# Altium integrated library Altium_WCAP-CSGP (rev22a).IntLib: 953 symbols (part 14 of 17)
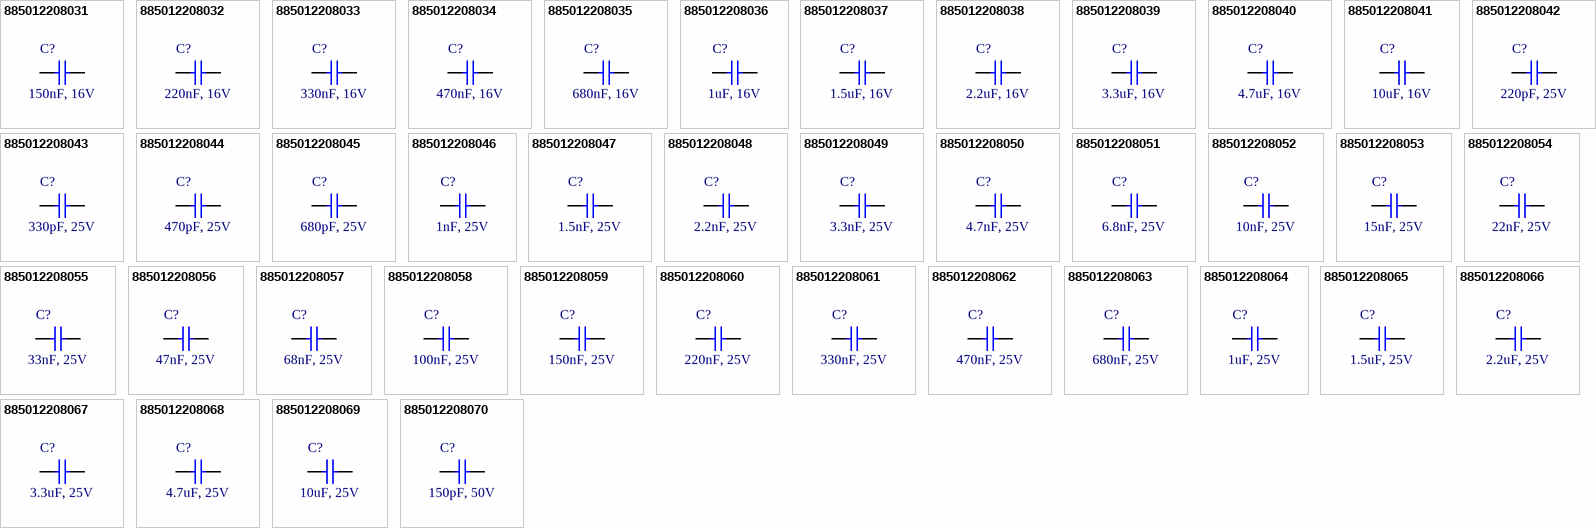
[diagram p40: symbols 885012208031 to 885012208070]

## 885012208051
designator C?, comment 6.8nF, 25V
WCAP-CSGP Multilayer Ceramic Chip Capacitor, General Purpose, size 1206, X7R, 6.8nF, 25V; Manufacturer: Wurth Elektronik; Manufacturer Part Number: 885012208051; Capacitance Tolerance: +/-10%; Dissipation Factor: 3.5%; Isolation Resistance: 10GOhm; Technical Reference: X7R1206682K025DFCT10000; Capacitance: 6.8nF; Ceramic Type: X7R; ComponentLink1Description: Manufacturer Link; ComponentLink1URL: http://www.we-online.de; ComponentLink2Description: Datasheet; ComponentLink2URL: https://www.we-online.com/catalog/datasheet/885012208051.pdf; Height: 0.8mm; Length: 3.2mm; Mounting Technology: SMT; Operating Temperature max.: 125C; Operating Temperature min.: -55C; Packaging: Tape and Reel; Rated Voltage: 25V; Size: 1206; Width: 1.6mm
footprint WCAP-CSGP_1206_L3.2W1.6H0.8
pins: 1, 2

## 885012208052
designator C?, comment 10nF, 25V
WCAP-CSGP Multilayer Ceramic Chip Capacitor, General Purpose, size 1206, X7R, 10nF, 25V; Manufacturer: Wurth Elektronik; Manufacturer Part Number: 885012208052; Capacitance Tolerance: +/-10%; Dissipation Factor: 3.5%; Isolation Resistance: 10GOhm; Technical Reference: X7R1206103K025DFCT10000; Capacitance: 10nF; Ceramic Type: X7R; ComponentLink1Description: Manufacturer Link; ComponentLink1URL: http://www.we-online.de; ComponentLink2Description: Datasheet; ComponentLink2URL: https://www.we-online.com/catalog/datasheet/885012208052.pdf; Height: 0.8mm; Length: 3.2mm; Mounting Technology: SMT; Operating Temperature max.: 125C; Operating Temperature min.: -55C; Packaging: Tape and Reel; Rated Voltage: 25V; Size: 1206; Width: 1.6mm
footprint WCAP-CSGP_1206_L3.2W1.6H0.8
pins: 1, 2

## 885012208053
designator C?, comment 15nF, 25V
WCAP-CSGP Multilayer Ceramic Chip Capacitor, General Purpose, size 1206, X7R, 15nF, 25V; Manufacturer: Wurth Elektronik; Manufacturer Part Number: 885012208053; Capacitance Tolerance: +/-10%; Dissipation Factor: 3.5%; Isolation Resistance: 10GOhm; Technical Reference: X7R1206153K025DFCT10000; Capacitance: 15nF; Ceramic Type: X7R; ComponentLink1Description: Manufacturer Link; ComponentLink1URL: http://www.we-online.de; ComponentLink2Description: Datasheet; ComponentLink2URL: https://www.we-online.com/catalog/datasheet/885012208053.pdf; Height: 0.8mm; Length: 3.2mm; Mounting Technology: SMT; Operating Temperature max.: 125C; Operating Temperature min.: -55C; Packaging: Tape and Reel; Rated Voltage: 25V; Size: 1206; Width: 1.6mm
footprint WCAP-CSGP_1206_L3.2W1.6H0.8
pins: 1, 2

## 885012208054
designator C?, comment 22nF, 25V
WCAP-CSGP Multilayer Ceramic Chip Capacitor, General Purpose, size 1206, X7R, 22nF, 25V; Manufacturer: Wurth Elektronik; Manufacturer Part Number: 885012208054; Capacitance Tolerance: +/-10%; Dissipation Factor: 3.5%; Isolation Resistance: 10GOhm; Technical Reference: X7R1206223K025DFCT10000; Capacitance: 22nF; Ceramic Type: X7R; ComponentLink1Description: Manufacturer Link; ComponentLink1URL: http://www.we-online.de; ComponentLink2Description: Datasheet; ComponentLink2URL: https://www.we-online.com/catalog/datasheet/885012208054.pdf; Height: 0.8mm; Length: 3.2mm; Mounting Technology: SMT; Operating Temperature max.: 125C; Operating Temperature min.: -55C; Packaging: Tape and Reel; Rated Voltage: 25V; Size: 1206; Width: 1.6mm
footprint WCAP-CSGP_1206_L3.2W1.6H0.8
pins: 1, 2

## 885012208055
designator C?, comment 33nF, 25V
WCAP-CSGP Multilayer Ceramic Chip Capacitor, General Purpose, size 1206, X7R, 33nF, 25V; Manufacturer: Wurth Elektronik; Manufacturer Part Number: 885012208055; Capacitance Tolerance: +/-10%; Dissipation Factor: 3.5%; Isolation Resistance: 10GOhm; Technical Reference: X7R1206333K025DFCT10000; Capacitance: 33nF; Ceramic Type: X7R; ComponentLink1Description: Manufacturer Link; ComponentLink1URL: http://www.we-online.de; ComponentLink2Description: Datasheet; ComponentLink2URL: https://www.we-online.com/catalog/datasheet/885012208055.pdf; Height: 0.8mm; Length: 3.2mm; Mounting Technology: SMT; Operating Temperature max.: 125C; Operating Temperature min.: -55C; Packaging: Tape and Reel; Rated Voltage: 25V; Size: 1206; Width: 1.6mm
footprint WCAP-CSGP_1206_L3.2W1.6H0.8
pins: 1, 2

## 885012208056
designator C?, comment 47nF, 25V
WCAP-CSGP Multilayer Ceramic Chip Capacitor, General Purpose, size 1206, X7R, 47nF, 25V; Manufacturer: Wurth Elektronik; Manufacturer Part Number: 885012208056; Capacitance Tolerance: +/-10%; Dissipation Factor: 3.5%; Isolation Resistance: 10GOhm; Technical Reference: X7R1206473K025DFCT10000; Capacitance: 47nF; Ceramic Type: X7R; ComponentLink1Description: Manufacturer Link; ComponentLink1URL: http://www.we-online.de; ComponentLink2Description: Datasheet; ComponentLink2URL: https://www.we-online.com/catalog/datasheet/885012208056.pdf; Height: 0.8mm; Length: 3.2mm; Mounting Technology: SMT; Operating Temperature max.: 125C; Operating Temperature min.: -55C; Packaging: Tape and Reel; Rated Voltage: 25V; Size: 1206; Width: 1.6mm
footprint WCAP-CSGP_1206_L3.2W1.6H0.8
pins: 1, 2

## 885012208057
designator C?, comment 68nF, 25V
WCAP-CSGP Multilayer Ceramic Chip Capacitor, General Purpose, size 1206, X7R, 68nF, 25V; Manufacturer: Wurth Elektronik; Manufacturer Part Number: 885012208057; Capacitance Tolerance: +/-10%; Dissipation Factor: 3.5%; Isolation Resistance: 7.4GOhm; Technical Reference: X7R1206683K025DFCT10000; Capacitance: 68nF; Ceramic Type: X7R; ComponentLink1Description: Manufacturer Link; ComponentLink1URL: http://www.we-online.de; ComponentLink2Description: Datasheet; ComponentLink2URL: https://www.we-online.com/catalog/datasheet/885012208057.pdf; Height: 0.8mm; Length: 3.2mm; Mounting Technology: SMT; Operating Temperature max.: 125C; Operating Temperature min.: -55C; Packaging: Tape and Reel; Rated Voltage: 25V; Size: 1206; Width: 1.6mm
footprint WCAP-CSGP_1206_L3.2W1.6H0.8
pins: 1, 2

## 885012208058
designator C?, comment 100nF, 25V
WCAP-CSGP Multilayer Ceramic Chip Capacitor, General Purpose, size 1206, X7R, 100nF, 25V; Manufacturer: Wurth Elektronik; Manufacturer Part Number: 885012208058; Capacitance Tolerance: +/-10%; Dissipation Factor: 3.5%; Isolation Resistance: 5GOhm; Technical Reference: X7R1206104K025DFCT10000; Capacitance: 100nF; Ceramic Type: X7R; ComponentLink1Description: Manufacturer Link; ComponentLink1URL: http://www.we-online.de; ComponentLink2Description: Datasheet; ComponentLink2URL: https://www.we-online.com/catalog/datasheet/885012208058.pdf; Height: 0.8mm; Length: 3.2mm; Mounting Technology: SMT; Operating Temperature max.: 125C; Operating Temperature min.: -55C; Packaging: Tape and Reel; Rated Voltage: 25V; Size: 1206; Width: 1.6mm
footprint WCAP-CSGP_1206_L3.2W1.6H0.8
pins: 1, 2

## 885012208059
designator C?, comment 150nF, 25V
WCAP-CSGP Multilayer Ceramic Chip Capacitor, General Purpose, size 1206, X7R, 150nF, 25V; Manufacturer: Wurth Elektronik; Manufacturer Part Number: 885012208059; Capacitance Tolerance: +/-10%; Dissipation Factor: 3.5%; Isolation Resistance: 3.3GOhm; Technical Reference: X7R1206154K025DFCT10000; Capacitance: 150nF; Ceramic Type: X7R; ComponentLink1Description: Manufacturer Link; ComponentLink1URL: http://www.we-online.de; ComponentLink2Description: Datasheet; ComponentLink2URL: https://www.we-online.com/catalog/datasheet/885012208059.pdf; Height: 0.95mm; Length: 3.2mm; Mounting Technology: SMT; Operating Temperature max.: 125C; Operating Temperature min.: -55C; Packaging: Tape and Reel; Rated Voltage: 25V; Size: 1206; Width: 1.6mm
footprint WCAP-CSGP_1206_L3.2W1.6H0.95
pins: 1, 2

## 885012208060
designator C?, comment 220nF, 25V
WCAP-CSGP Multilayer Ceramic Chip Capacitor, General Purpose, size 1206, X7R, 220nF, 25V; Manufacturer: Wurth Elektronik; Manufacturer Part Number: 885012208060; Capacitance Tolerance: +/-10%; Dissipation Factor: 3.5%; Isolation Resistance: 2.3GOhm; Technical Reference: X7R1206224K025DFCT10000; Capacitance: 220nF; Ceramic Type: X7R; ComponentLink1Description: Manufacturer Link; ComponentLink1URL: http://www.we-online.de; ComponentLink2Description: Datasheet; ComponentLink2URL: https://www.we-online.com/catalog/datasheet/885012208060.pdf; Height: 0.95mm; Length: 3.2mm; Mounting Technology: SMT; Operating Temperature max.: 125C; Operating Temperature min.: -55C; Packaging: Tape and Reel; Rated Voltage: 25V; Size: 1206; Width: 1.6mm
footprint WCAP-CSGP_1206_L3.2W1.6H0.95
pins: 1, 2

## 885012208061
designator C?, comment 330nF, 25V
WCAP-CSGP Multilayer Ceramic Chip Capacitor, General Purpose, size 1206, X7R, 330nF, 25V; Manufacturer: Wurth Elektronik; Manufacturer Part Number: 885012208061; Capacitance Tolerance: +/-10%; Dissipation Factor: 3.5%; Isolation Resistance: 1.5GOhm; Technical Reference: X7R1206334K025DFCT10000; Capacitance: 330nF; Ceramic Type: X7R; ComponentLink1Description: Manufacturer Link; ComponentLink1URL: http://www.we-online.de; ComponentLink2Description: Datasheet; ComponentLink2URL: https://www.we-online.com/catalog/datasheet/885012208061.pdf; Height: 0.95mm; Length: 3.2mm; Mounting Technology: SMT; Operating Temperature max.: 125C; Operating Temperature min.: -55C; Packaging: Tape and Reel; Rated Voltage: 25V; Size: 1206; Width: 1.6mm
footprint WCAP-CSGP_1206_L3.2W1.6H0.95
pins: 1, 2

## 885012208062
designator C?, comment 470nF, 25V
WCAP-CSGP Multilayer Ceramic Chip Capacitor, General Purpose, size 1206, X7R, 470nF, 25V; Manufacturer: Wurth Elektronik; Manufacturer Part Number: 885012208062; Capacitance Tolerance: +/-10%; Dissipation Factor: 3.5%; Isolation Resistance: 1.1GOhm; Technical Reference: X7R1206474K025DFCT10000; Capacitance: 470nF; Ceramic Type: X7R; ComponentLink1Description: Manufacturer Link; ComponentLink1URL: http://www.we-online.de; ComponentLink2Description: Datasheet; ComponentLink2URL: https://www.we-online.com/catalog/datasheet/885012208062.pdf; Height: 1.15mm; Length: 3.2mm; Mounting Technology: SMT; Operating Temperature max.: 125C; Operating Temperature min.: -55C; Packaging: Tape and Reel; Rated Voltage: 25V; Size: 1206; Width: 1.6mm
footprint WCAP-CSGP_1206_L3.2W1.6H1.15
pins: 1, 2

## 885012208063
designator C?, comment 680nF, 25V
WCAP-CSGP Multilayer Ceramic Chip Capacitor, General Purpose, size 1206, X7R, 680nF, 25V; Manufacturer: Wurth Elektronik; Manufacturer Part Number: 885012208063; Capacitance Tolerance: +/-10%; Dissipation Factor: 3.5%; Isolation Resistance: 0.7GOhm; Technical Reference: X7R1206684K025DFCT10000; Capacitance: 680nF; Ceramic Type: X7R; ComponentLink1Description: Manufacturer Link; ComponentLink1URL: http://www.we-online.de; ComponentLink2Description: Datasheet; ComponentLink2URL: https://www.we-online.com/catalog/datasheet/885012208063.pdf; Height: 1.15mm; Length: 3.2mm; Mounting Technology: SMT; Operating Temperature max.: 125C; Operating Temperature min.: -55C; Packaging: Tape and Reel; Rated Voltage: 25V; Size: 1206; Width: 1.6mm
footprint WCAP-CSGP_1206_L3.2W1.6H1.15
pins: 1, 2

## 885012208064
designator C?, comment 1uF, 25V
WCAP-CSGP Multilayer Ceramic Chip Capacitor, General Purpose, size 1206, X7R, 1uF, 25V; Manufacturer: Wurth Elektronik; Manufacturer Part Number: 885012208064; Capacitance Tolerance: +/-10%; Dissipation Factor: 3.5%; Isolation Resistance: 0.5GOhm; Technical Reference: X7R1206105K025DFCT10000; Capacitance: 1uF; Ceramic Type: X7R; ComponentLink1Description: Manufacturer Link; ComponentLink1URL: http://www.we-online.de; ComponentLink2Description: Datasheet; ComponentLink2URL: https://www.we-online.com/catalog/datasheet/885012208064.pdf; Height: 1.15mm; Length: 3.2mm; Mounting Technology: SMT; Operating Temperature max.: 125C; Operating Temperature min.: -55C; Packaging: Tape and Reel; Rated Voltage: 25V; Size: 1206; Width: 1.6mm
footprint WCAP-CSGP_1206_L3.2W1.6H1.15
pins: 1, 2

## 885012208065
designator C?, comment 1.5uF, 25V
WCAP-CSGP Multilayer Ceramic Chip Capacitor, General Purpose, size 1206, X7R, 1.5uF, 25V; Manufacturer: Wurth Elektronik; Manufacturer Part Number: 885012208065; Capacitance Tolerance: +/-10%; Dissipation Factor: 3.5%; Isolation Resistance: 0.3GOhm; Technical Reference: X7R1206155K025DFCT10000; Capacitance: 1.5uF; Ceramic Type: X7R; ComponentLink1Description: Manufacturer Link; ComponentLink1URL: http://www.we-online.de; ComponentLink2Description: Datasheet; ComponentLink2URL: https://www.we-online.com/catalog/datasheet/885012208065.pdf; Height: 1.6mm; Length: 3.2mm; Mounting Technology: SMT; Operating Temperature max.: 125C; Operating Temperature min.: -55C; Packaging: Tape and Reel; Rated Voltage: 25V; Size: 1206; Width: 1.6mm
footprint WCAP-CSGP_1206_L3.2W1.6H1.6
pins: 1, 2

## 885012208066
designator C?, comment 2.2uF, 25V
WCAP-CSGP Multilayer Ceramic Chip Capacitor, General Purpose, size 1206, X7R, 2.2uF, 25V; Manufacturer: Wurth Elektronik; Manufacturer Part Number: 885012208066; Capacitance Tolerance: +/-10%; Dissipation Factor: 3.5%; Isolation Resistance: 0.2GOhm; Technical Reference: X7R1206225K025DFCT10000; Capacitance: 2.2uF; Ceramic Type: X7R; ComponentLink1Description: Manufacturer Link; ComponentLink1URL: http://www.we-online.de; ComponentLink2Description: Datasheet; ComponentLink2URL: https://www.we-online.com/catalog/datasheet/885012208066.pdf; Height: 1.6mm; Length: 3.2mm; Mounting Technology: SMT; Operating Temperature max.: 125C; Operating Temperature min.: -55C; Packaging: Tape and Reel; Rated Voltage: 25V; Size: 1206; Width: 1.6mm
footprint WCAP-CSGP_1206_L3.2W1.6H1.6
pins: 1, 2

## 885012208067
designator C?, comment 3.3uF, 25V
WCAP-CSGP Multilayer Ceramic Chip Capacitor, General Purpose, size 1206, X7R, 3.3uF, 25V; Manufacturer: Wurth Elektronik; Manufacturer Part Number: 885012208067; Capacitance Tolerance: +/-10%; Dissipation Factor: 3.5%; Isolation Resistance: 0.2GOhm; Technical Reference: X7R1206335K025DFCT10000; Capacitance: 3.3uF; Ceramic Type: X7R; ComponentLink1Description: Manufacturer Link; ComponentLink1URL: http://www.we-online.de; ComponentLink2Description: Datasheet; ComponentLink2URL: https://www.we-online.com/catalog/datasheet/885012208067.pdf; Height: 1.6mm; Length: 3.2mm; Mounting Technology: SMT; Operating Temperature max.: 125C; Operating Temperature min.: -55C; Packaging: Tape and Reel; Rated Voltage: 25V; Size: 1206; Width: 1.6mm
footprint WCAP-CSGP_1206_L3.2W1.6H1.6
pins: 1, 2

## 885012208068
designator C?, comment 4.7uF, 25V
WCAP-CSGP Multilayer Ceramic Chip Capacitor, General Purpose, size 1206, X7R, 4.7uF, 25V; Manufacturer: Wurth Elektronik; Manufacturer Part Number: 885012208068; Capacitance Tolerance: +/-10%; Dissipation Factor: 7%; Isolation Resistance: 0.1GOhm; Technical Reference: X7R1206475K025DFCT10000; Capacitance: 4.7uF; Ceramic Type: X7R; ComponentLink1Description: Manufacturer Link; ComponentLink1URL: http://www.we-online.de; ComponentLink2Description: Datasheet; ComponentLink2URL: https://www.we-online.com/catalog/datasheet/885012208068.pdf; Height: 1.6mm; Length: 3.2mm; Mounting Technology: SMT; Operating Temperature max.: 125C; Operating Temperature min.: -55C; Packaging: Tape and Reel; Rated Voltage: 25V; Size: 1206; Width: 1.6mm
footprint WCAP-CSGP_1206_L3.2W1.6H1.6
pins: 1, 2

## 885012208069
designator C?, comment 10uF, 25V
WCAP-CSGP Multilayer Ceramic Chip Capacitor, General Purpose, size 1206, X7R, 10uF, 25V; Manufacturer: Wurth Elektronik; Manufacturer Part Number: 885012208069; Capacitance Tolerance: +/-10%; Dissipation Factor: 10%; Isolation Resistance: 0.01GOhm; Technical Reference: X7R1206106K025DFCT10000; Capacitance: 10uF; Ceramic Type: X7R; ComponentLink1Description: Manufacturer Link; ComponentLink1URL: http://www.we-online.de; ComponentLink2Description: Datasheet; ComponentLink2URL: https://www.we-online.com/catalog/datasheet/885012208069.pdf; Height: 1.6mm; Length: 3.2mm; Mounting Technology: SMT; Operating Temperature max.: 125C; Operating Temperature min.: -55C; Packaging: Tape and Reel; Rated Voltage: 25V; Size: 1206; Width: 1.6mm
footprint WCAP-CSGP_1206_L3.2W1.6H1.6
pins: 1, 2

## 885012208070
designator C?, comment 150pF, 50V
WCAP-CSGP Multilayer Ceramic Chip Capacitor, General Purpose, size 1206, X7R, 150pF, 50V; Manufacturer: Wurth Elektronik; Manufacturer Part Number: 885012208070; Capacitance Tolerance: +/-10%; Dissipation Factor: 2.5%; Isolation Resistance: 10GOhm; Technical Reference: X7R1206151K050DFCT10000; Capacitance: 150pF; Ceramic Type: X7R; ComponentLink1Description: Manufacturer Link; ComponentLink1URL: http://www.we-online.de; ComponentLink2Description: Datasheet; ComponentLink2URL: https://www.we-online.com/catalog/datasheet/885012208070.pdf; Height: 0.8mm; Length: 3.2mm; Mounting Technology: SMT; Operating Temperature max.: 125C; Operating Temperature min.: -55C; Packaging: Tape and Reel; Rated Voltage: 50V; Size: 1206; Width: 1.6mm
footprint WCAP-CSGP_1206_L3.2W1.6H0.8
pins: 1, 2

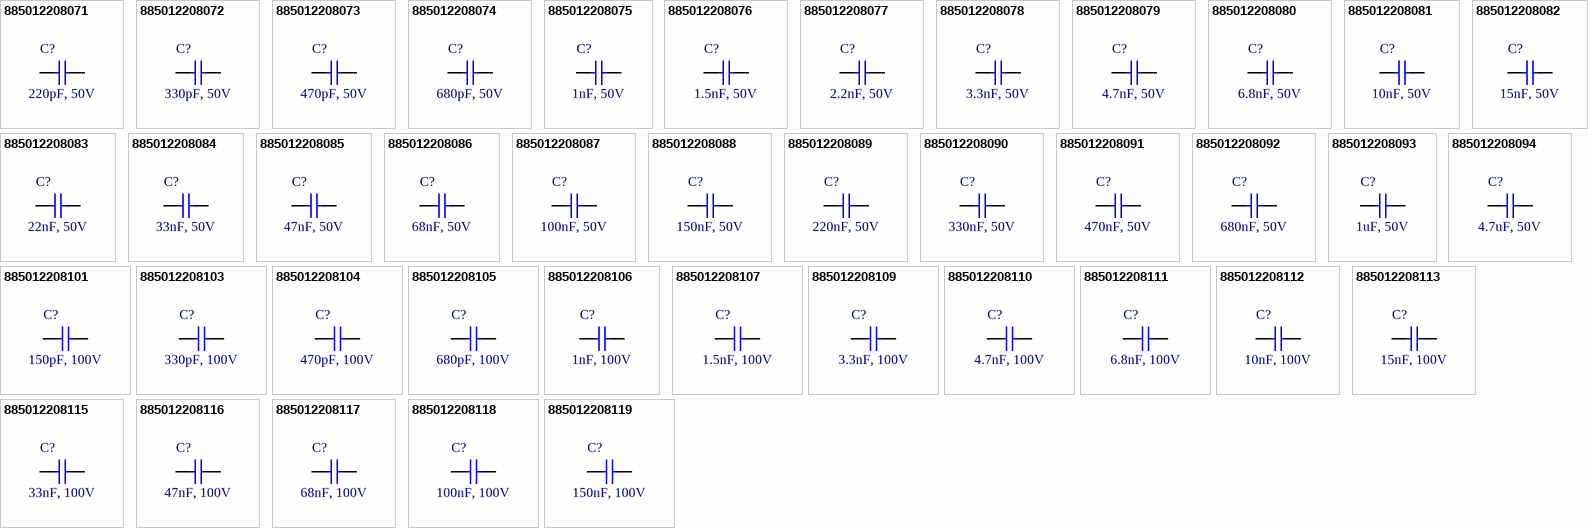
[diagram p21: symbols 885012208071 to 885012208119]

## 885012208071
designator C?, comment 220pF, 50V
WCAP-CSGP Multilayer Ceramic Chip Capacitor, General Purpose, size 1206, X7R, 220pF, 50V; Manufacturer: Wurth Elektronik; Manufacturer Part Number: 885012208071; Capacitance Tolerance: +/-10%; Dissipation Factor: 2.5%; Isolation Resistance: 10GOhm; Technical Reference: X7R1206221K050DFCT10000; Capacitance: 220pF; Ceramic Type: X7R; ComponentLink1Description: Manufacturer Link; ComponentLink1URL: http://www.we-online.de; ComponentLink2Description: Datasheet; ComponentLink2URL: https://www.we-online.com/catalog/datasheet/885012208071.pdf; Height: 0.8mm; Length: 3.2mm; Mounting Technology: SMT; Operating Temperature max.: 125C; Operating Temperature min.: -55C; Packaging: Tape and Reel; Rated Voltage: 50V; Size: 1206; Width: 1.6mm
footprint WCAP-CSGP_1206_L3.2W1.6H0.8
pins: 1, 2

## 885012208072
designator C?, comment 330pF, 50V
WCAP-CSGP Multilayer Ceramic Chip Capacitor, General Purpose, size 1206, X7R, 330pF, 50V; Manufacturer: Wurth Elektronik; Manufacturer Part Number: 885012208072; Capacitance Tolerance: +/-10%; Dissipation Factor: 2.5%; Isolation Resistance: 10GOhm; Technical Reference: X7R1206331K050DFCT10000; Capacitance: 330pF; Ceramic Type: X7R; ComponentLink1Description: Manufacturer Link; ComponentLink1URL: http://www.we-online.de; ComponentLink2Description: Datasheet; ComponentLink2URL: https://www.we-online.com/catalog/datasheet/885012208072.pdf; Height: 0.8mm; Length: 3.2mm; Mounting Technology: SMT; Operating Temperature max.: 125C; Operating Temperature min.: -55C; Packaging: Tape and Reel; Rated Voltage: 50V; Size: 1206; Width: 1.6mm
footprint WCAP-CSGP_1206_L3.2W1.6H0.8
pins: 1, 2

## 885012208073
designator C?, comment 470pF, 50V
WCAP-CSGP Multilayer Ceramic Chip Capacitor, General Purpose, size 1206, X7R, 470pF, 50V; Manufacturer: Wurth Elektronik; Manufacturer Part Number: 885012208073; Capacitance Tolerance: +/-10%; Dissipation Factor: 2.5%; Isolation Resistance: 10GOhm; Technical Reference: X7R1206471K050DFCT10000; Capacitance: 470pF; Ceramic Type: X7R; ComponentLink1Description: Manufacturer Link; ComponentLink1URL: http://www.we-online.de; ComponentLink2Description: Datasheet; ComponentLink2URL: https://www.we-online.com/catalog/datasheet/885012208073.pdf; Height: 0.8mm; Length: 3.2mm; Mounting Technology: SMT; Operating Temperature max.: 125C; Operating Temperature min.: -55C; Packaging: Tape and Reel; Rated Voltage: 50V; Size: 1206; Width: 1.6mm
footprint WCAP-CSGP_1206_L3.2W1.6H0.8
pins: 1, 2

## 885012208074
designator C?, comment 680pF, 50V
WCAP-CSGP Multilayer Ceramic Chip Capacitor, General Purpose, size 1206, X7R, 680pF, 50V; Manufacturer: Wurth Elektronik; Manufacturer Part Number: 885012208074; Capacitance Tolerance: +/-10%; Dissipation Factor: 2.5%; Isolation Resistance: 10GOhm; Technical Reference: X7R1206681K050DFCT10000; Capacitance: 680pF; Ceramic Type: X7R; ComponentLink1Description: Manufacturer Link; ComponentLink1URL: http://www.we-online.de; ComponentLink2Description: Datasheet; ComponentLink2URL: https://www.we-online.com/catalog/datasheet/885012208074.pdf; Height: 0.8mm; Length: 3.2mm; Mounting Technology: SMT; Operating Temperature max.: 125C; Operating Temperature min.: -55C; Packaging: Tape and Reel; Rated Voltage: 50V; Size: 1206; Width: 1.6mm
footprint WCAP-CSGP_1206_L3.2W1.6H0.8
pins: 1, 2

## 885012208075
designator C?, comment 1nF, 50V
WCAP-CSGP Multilayer Ceramic Chip Capacitor, General Purpose, size 1206, X7R, 1nF, 50V; Manufacturer: Wurth Elektronik; Manufacturer Part Number: 885012208075; Capacitance Tolerance: +/-10%; Dissipation Factor: 2.5%; Isolation Resistance: 10GOhm; Technical Reference: X7R1206102K050DFCT10000; Capacitance: 1nF; Ceramic Type: X7R; ComponentLink1Description: Manufacturer Link; ComponentLink1URL: http://www.we-online.de; ComponentLink2Description: Datasheet; ComponentLink2URL: https://www.we-online.com/catalog/datasheet/885012208075.pdf; Height: 0.8mm; Length: 3.2mm; Mounting Technology: SMT; Operating Temperature max.: 125C; Operating Temperature min.: -55C; Packaging: Tape and Reel; Rated Voltage: 50V; Size: 1206; Width: 1.6mm
footprint WCAP-CSGP_1206_L3.2W1.6H0.8
pins: 1, 2

## 885012208076
designator C?, comment 1.5nF, 50V
WCAP-CSGP Multilayer Ceramic Chip Capacitor, General Purpose, size 1206, X7R, 1.5nF, 50V; Manufacturer: Wurth Elektronik; Manufacturer Part Number: 885012208076; Capacitance Tolerance: +/-10%; Dissipation Factor: 2.5%; Isolation Resistance: 10GOhm; Technical Reference: X7R1206152K050DFCT10000; Capacitance: 1.5nF; Ceramic Type: X7R; ComponentLink1Description: Manufacturer Link; ComponentLink1URL: http://www.we-online.de; ComponentLink2Description: Datasheet; ComponentLink2URL: https://www.we-online.com/catalog/datasheet/885012208076.pdf; Height: 0.8mm; Length: 3.2mm; Mounting Technology: SMT; Operating Temperature max.: 125C; Operating Temperature min.: -55C; Packaging: Tape and Reel; Rated Voltage: 50V; Size: 1206; Width: 1.6mm
footprint WCAP-CSGP_1206_L3.2W1.6H0.8
pins: 1, 2

## 885012208077
designator C?, comment 2.2nF, 50V
WCAP-CSGP Multilayer Ceramic Chip Capacitor, General Purpose, size 1206, X7R, 2.2nF, 50V; Manufacturer: Wurth Elektronik; Manufacturer Part Number: 885012208077; Capacitance Tolerance: +/-10%; Dissipation Factor: 2.5%; Isolation Resistance: 10GOhm; Technical Reference: X7R1206222K050DFCT10000; Capacitance: 2.2nF; Ceramic Type: X7R; ComponentLink1Description: Manufacturer Link; ComponentLink1URL: http://www.we-online.de; ComponentLink2Description: Datasheet; ComponentLink2URL: https://www.we-online.com/catalog/datasheet/885012208077.pdf; Height: 0.8mm; Length: 3.2mm; Mounting Technology: SMT; Operating Temperature max.: 125C; Operating Temperature min.: -55C; Packaging: Tape and Reel; Rated Voltage: 50V; Size: 1206; Width: 1.6mm
footprint WCAP-CSGP_1206_L3.2W1.6H0.8
pins: 1, 2

## 885012208078
designator C?, comment 3.3nF, 50V
WCAP-CSGP Multilayer Ceramic Chip Capacitor, General Purpose, size 1206, X7R, 3.3nF, 50V; Manufacturer: Wurth Elektronik; Manufacturer Part Number: 885012208078; Capacitance Tolerance: +/-10%; Dissipation Factor: 2.5%; Isolation Resistance: 10GOhm; Technical Reference: X7R1206332K050DFCT10000; Capacitance: 3.3nF; Ceramic Type: X7R; ComponentLink1Description: Manufacturer Link; ComponentLink1URL: http://www.we-online.de; ComponentLink2Description: Datasheet; ComponentLink2URL: https://www.we-online.com/catalog/datasheet/885012208078.pdf; Height: 0.8mm; Length: 3.2mm; Mounting Technology: SMT; Operating Temperature max.: 125C; Operating Temperature min.: -55C; Packaging: Tape and Reel; Rated Voltage: 50V; Size: 1206; Width: 1.6mm
footprint WCAP-CSGP_1206_L3.2W1.6H0.8
pins: 1, 2

## 885012208079
designator C?, comment 4.7nF, 50V
WCAP-CSGP Multilayer Ceramic Chip Capacitor, General Purpose, size 1206, X7R, 4.7nF, 50V; Manufacturer: Wurth Elektronik; Manufacturer Part Number: 885012208079; Capacitance Tolerance: +/-10%; Dissipation Factor: 2.5%; Isolation Resistance: 10GOhm; Technical Reference: X7R1206472K050DFCT10000; Capacitance: 4.7nF; Ceramic Type: X7R; ComponentLink1Description: Manufacturer Link; ComponentLink1URL: http://www.we-online.de; ComponentLink2Description: Datasheet; ComponentLink2URL: https://www.we-online.com/catalog/datasheet/885012208079.pdf; Height: 0.8mm; Length: 3.2mm; Mounting Technology: SMT; Operating Temperature max.: 125C; Operating Temperature min.: -55C; Packaging: Tape and Reel; Rated Voltage: 50V; Size: 1206; Width: 1.6mm
footprint WCAP-CSGP_1206_L3.2W1.6H0.8
pins: 1, 2

## 885012208080
designator C?, comment 6.8nF, 50V
WCAP-CSGP Multilayer Ceramic Chip Capacitor, General Purpose, size 1206, X7R, 6.8nF, 50V; Manufacturer: Wurth Elektronik; Manufacturer Part Number: 885012208080; Capacitance Tolerance: +/-10%; Dissipation Factor: 2.5%; Isolation Resistance: 10GOhm; Technical Reference: X7R1206682K050DFCT10000; Capacitance: 6.8nF; Ceramic Type: X7R; ComponentLink1Description: Manufacturer Link; ComponentLink1URL: http://www.we-online.de; ComponentLink2Description: Datasheet; ComponentLink2URL: https://www.we-online.com/catalog/datasheet/885012208080.pdf; Height: 0.8mm; Length: 3.2mm; Mounting Technology: SMT; Operating Temperature max.: 125C; Operating Temperature min.: -55C; Packaging: Tape and Reel; Rated Voltage: 50V; Size: 1206; Width: 1.6mm
footprint WCAP-CSGP_1206_L3.2W1.6H0.8
pins: 1, 2

## 885012208081
designator C?, comment 10nF, 50V
WCAP-CSGP Multilayer Ceramic Chip Capacitor, General Purpose, size 1206, X7R, 10nF, 50V; Manufacturer: Wurth Elektronik; Manufacturer Part Number: 885012208081; Capacitance Tolerance: +/-10%; Dissipation Factor: 2.5%; Isolation Resistance: 10GOhm; Technical Reference: X7R1206103K050DFCT10000; Capacitance: 10nF; Ceramic Type: X7R; ComponentLink1Description: Manufacturer Link; ComponentLink1URL: http://www.we-online.de; ComponentLink2Description: Datasheet; ComponentLink2URL: https://www.we-online.com/catalog/datasheet/885012208081.pdf; Height: 0.8mm; Length: 3.2mm; Mounting Technology: SMT; Operating Temperature max.: 125C; Operating Temperature min.: -55C; Packaging: Tape and Reel; Rated Voltage: 50V; Size: 1206; Width: 1.6mm
footprint WCAP-CSGP_1206_L3.2W1.6H0.8
pins: 1, 2

## 885012208082
designator C?, comment 15nF, 50V
WCAP-CSGP Multilayer Ceramic Chip Capacitor, General Purpose, size 1206, X7R, 15nF, 50V; Manufacturer: Wurth Elektronik; Manufacturer Part Number: 885012208082; Capacitance Tolerance: +/-10%; Dissipation Factor: 2.5%; Isolation Resistance: 10GOhm; Technical Reference: X7R1206153K050DFCT10000; Capacitance: 15nF; Ceramic Type: X7R; ComponentLink1Description: Manufacturer Link; ComponentLink1URL: http://www.we-online.de; ComponentLink2Description: Datasheet; ComponentLink2URL: https://www.we-online.com/catalog/datasheet/885012208082.pdf; Height: 0.8mm; Length: 3.2mm; Mounting Technology: SMT; Operating Temperature max.: 125C; Operating Temperature min.: -55C; Packaging: Tape and Reel; Rated Voltage: 50V; Size: 1206; Width: 1.6mm
footprint WCAP-CSGP_1206_L3.2W1.6H0.8
pins: 1, 2

## 885012208083
designator C?, comment 22nF, 50V
WCAP-CSGP Multilayer Ceramic Chip Capacitor, General Purpose, size 1206, X7R, 22nF, 50V; Manufacturer: Wurth Elektronik; Manufacturer Part Number: 885012208083; Capacitance Tolerance: +/-10%; Dissipation Factor: 2.5%; Isolation Resistance: 10GOhm; Technical Reference: X7R1206223K050DFCT10000; Capacitance: 22nF; Ceramic Type: X7R; ComponentLink1Description: Manufacturer Link; ComponentLink1URL: http://www.we-online.de; ComponentLink2Description: Datasheet; ComponentLink2URL: https://www.we-online.com/catalog/datasheet/885012208083.pdf; Height: 0.8mm; Length: 3.2mm; Mounting Technology: SMT; Operating Temperature max.: 125C; Operating Temperature min.: -55C; Packaging: Tape and Reel; Rated Voltage: 50V; Size: 1206; Width: 1.6mm
footprint WCAP-CSGP_1206_L3.2W1.6H0.8
pins: 1, 2

## 885012208084
designator C?, comment 33nF, 50V
WCAP-CSGP Multilayer Ceramic Chip Capacitor, General Purpose, size 1206, X7R, 33nF, 50V; Manufacturer: Wurth Elektronik; Manufacturer Part Number: 885012208084; Capacitance Tolerance: +/-10%; Dissipation Factor: 2.5%; Isolation Resistance: 10GOhm; Technical Reference: X7R1206333K050DFCT10000; Capacitance: 33nF; Ceramic Type: X7R; ComponentLink1Description: Manufacturer Link; ComponentLink1URL: http://www.we-online.de; ComponentLink2Description: Datasheet; ComponentLink2URL: https://www.we-online.com/catalog/datasheet/885012208084.pdf; Height: 0.8mm; Length: 3.2mm; Mounting Technology: SMT; Operating Temperature max.: 125C; Operating Temperature min.: -55C; Packaging: Tape and Reel; Rated Voltage: 50V; Size: 1206; Width: 1.6mm
footprint WCAP-CSGP_1206_L3.2W1.6H0.8
pins: 1, 2

## 885012208085
designator C?, comment 47nF, 50V
WCAP-CSGP Multilayer Ceramic Chip Capacitor, General Purpose, size 1206, X7R, 47nF, 50V; Manufacturer: Wurth Elektronik; Manufacturer Part Number: 885012208085; Capacitance Tolerance: +/-10%; Dissipation Factor: 2.5%; Isolation Resistance: 10GOhm; Technical Reference: X7R1206473K050DFCT10000; Capacitance: 47nF; Ceramic Type: X7R; ComponentLink1Description: Manufacturer Link; ComponentLink1URL: http://www.we-online.de; ComponentLink2Description: Datasheet; ComponentLink2URL: https://www.we-online.com/catalog/datasheet/885012208085.pdf; Height: 0.8mm; Length: 3.2mm; Mounting Technology: SMT; Operating Temperature max.: 125C; Operating Temperature min.: -55C; Packaging: Tape and Reel; Rated Voltage: 50V; Size: 1206; Width: 1.6mm
footprint WCAP-CSGP_1206_L3.2W1.6H0.8
pins: 1, 2

## 885012208086
designator C?, comment 68nF, 50V
WCAP-CSGP Multilayer Ceramic Chip Capacitor, General Purpose, size 1206, X7R, 68nF, 50V; Manufacturer: Wurth Elektronik; Manufacturer Part Number: 885012208086; Capacitance Tolerance: +/-10%; Dissipation Factor: 2.5%; Isolation Resistance: 7.4GOhm; Technical Reference: X7R1206683K050DFCT10000; Capacitance: 68nF; Ceramic Type: X7R; ComponentLink1Description: Manufacturer Link; ComponentLink1URL: http://www.we-online.de; ComponentLink2Description: Datasheet; ComponentLink2URL: https://www.we-online.com/catalog/datasheet/885012208086.pdf; Height: 0.8mm; Length: 3.2mm; Mounting Technology: SMT; Operating Temperature max.: 125C; Operating Temperature min.: -55C; Packaging: Tape and Reel; Rated Voltage: 50V; Size: 1206; Width: 1.6mm
footprint WCAP-CSGP_1206_L3.2W1.6H0.8
pins: 1, 2

## 885012208087
designator C?, comment 100nF, 50V
WCAP-CSGP Multilayer Ceramic Chip Capacitor, General Purpose, size 1206, X7R, 100nF, 50V; Manufacturer: Wurth Elektronik; Manufacturer Part Number: 885012208087; Capacitance Tolerance: +/-10%; Dissipation Factor: 2.5%; Isolation Resistance: 5GOhm; Technical Reference: X7R1206104K050DFCT10000; Capacitance: 100nF; Ceramic Type: X7R; ComponentLink1Description: Manufacturer Link; ComponentLink1URL: http://www.we-online.de; ComponentLink2Description: Datasheet; ComponentLink2URL: https://www.we-online.com/catalog/datasheet/885012208087.pdf; Height: 0.8mm; Length: 3.2mm; Mounting Technology: SMT; Operating Temperature max.: 125C; Operating Temperature min.: -55C; Packaging: Tape and Reel; Rated Voltage: 50V; Size: 1206; Width: 1.6mm
footprint WCAP-CSGP_1206_L3.2W1.6H0.8
pins: 1, 2

## 885012208088
designator C?, comment 150nF, 50V
WCAP-CSGP Multilayer Ceramic Chip Capacitor, General Purpose, size 1206, X7R, 150nF, 50V; Manufacturer: Wurth Elektronik; Manufacturer Part Number: 885012208088; Capacitance Tolerance: +/-10%; Dissipation Factor: 2.5%; Isolation Resistance: 3.3GOhm; Technical Reference: X7R1206154K050DFCT10000; Capacitance: 150nF; Ceramic Type: X7R; ComponentLink1Description: Manufacturer Link; ComponentLink1URL: http://www.we-online.de; ComponentLink2Description: Datasheet; ComponentLink2URL: https://www.we-online.com/catalog/datasheet/885012208088.pdf; Height: 0.95mm; Length: 3.2mm; Mounting Technology: SMT; Operating Temperature max.: 125C; Operating Temperature min.: -55C; Packaging: Tape and Reel; Rated Voltage: 50V; Size: 1206; Width: 1.6mm
footprint WCAP-CSGP_1206_L3.2W1.6H0.95
pins: 1, 2

## 885012208089
designator C?, comment 220nF, 50V
WCAP-CSGP Multilayer Ceramic Chip Capacitor, General Purpose, size 1206, X7R, 220nF, 50V; Manufacturer: Wurth Elektronik; Manufacturer Part Number: 885012208089; Capacitance Tolerance: +/-10%; Dissipation Factor: 2.5%; Isolation Resistance: 2.3GOhm; Technical Reference: X7R1206224K050DFCT10000; Capacitance: 220nF; Ceramic Type: X7R; ComponentLink1Description: Manufacturer Link; ComponentLink1URL: http://www.we-online.de; ComponentLink2Description: Datasheet; ComponentLink2URL: https://www.we-online.com/catalog/datasheet/885012208089.pdf; Height: 0.95mm; Length: 3.2mm; Mounting Technology: SMT; Operating Temperature max.: 125C; Operating Temperature min.: -55C; Packaging: Tape and Reel; Rated Voltage: 50V; Size: 1206; Width: 1.6mm
footprint WCAP-CSGP_1206_L3.2W1.6H0.95
pins: 1, 2

## 885012208090
designator C?, comment 330nF, 50V
WCAP-CSGP Multilayer Ceramic Chip Capacitor, General Purpose, size 1206, X7R, 330nF, 50V; Manufacturer: Wurth Elektronik; Manufacturer Part Number: 885012208090; Capacitance Tolerance: +/-10%; Dissipation Factor: 2.5%; Isolation Resistance: 1.5GOhm; Technical Reference: X7R1206334K050DFCT10000; Capacitance: 330nF; Ceramic Type: X7R; ComponentLink1Description: Manufacturer Link; ComponentLink1URL: http://www.we-online.de; ComponentLink2Description: Datasheet; ComponentLink2URL: https://www.we-online.com/catalog/datasheet/885012208090.pdf; Height: 1.25mm; Length: 3.2mm; Mounting Technology: SMT; Operating Temperature max.: 125C; Operating Temperature min.: -55C; Packaging: Tape and Reel; Rated Voltage: 50V; Size: 1206; Width: 1.6mm
footprint WCAP-CSGP_1206_L3.2W1.6H1.25
pins: 1, 2

## 885012208091
designator C?, comment 470nF, 50V
WCAP-CSGP Multilayer Ceramic Chip Capacitor, General Purpose, size 1206, X7R, 470nF, 50V; Manufacturer: Wurth Elektronik; Manufacturer Part Number: 885012208091; Capacitance Tolerance: +/-10%; Dissipation Factor: 3%; Isolation Resistance: 1.1GOhm; Technical Reference: X7R1206474K050DFCT10000; Capacitance: 470nF; Ceramic Type: X7R; ComponentLink1Description: Manufacturer Link; ComponentLink1URL: http://www.we-online.de; ComponentLink2Description: Datasheet; ComponentLink2URL: https://www.we-online.com/catalog/datasheet/885012208091.pdf; Height: 1.6mm; Length: 3.2mm; Mounting Technology: SMT; Operating Temperature max.: 125C; Operating Temperature min.: -55C; Packaging: Tape and Reel; Rated Voltage: 50V; Size: 1206; Width: 1.6mm
footprint WCAP-CSGP_1206_L3.2W1.6H1.6
pins: 1, 2

## 885012208092
designator C?, comment 680nF, 50V
WCAP-CSGP Multilayer Ceramic Chip Capacitor, General Purpose, size 1206, X7R, 680nF, 50V; Manufacturer: Wurth Elektronik; Manufacturer Part Number: 885012208092; Capacitance Tolerance: +/-10%; Dissipation Factor: 3%; Isolation Resistance: 0.7GOhm; Technical Reference: X7R1206684K050DFCT10000; Capacitance: 680nF; Ceramic Type: X7R; ComponentLink1Description: Manufacturer Link; ComponentLink1URL: http://www.we-online.de; ComponentLink2Description: Datasheet; ComponentLink2URL: https://www.we-online.com/catalog/datasheet/885012208092.pdf; Height: 1.6mm; Length: 3.2mm; Mounting Technology: SMT; Operating Temperature max.: 125C; Operating Temperature min.: -55C; Packaging: Tape and Reel; Rated Voltage: 50V; Size: 1206; Width: 1.6mm
footprint WCAP-CSGP_1206_L3.2W1.6H1.6
pins: 1, 2

## 885012208093
designator C?, comment 1uF, 50V
WCAP-CSGP Multilayer Ceramic Chip Capacitor, General Purpose, size 1206, X7R, 1uF, 50V; Manufacturer: Wurth Elektronik; Manufacturer Part Number: 885012208093; Capacitance Tolerance: +/-10%; Dissipation Factor: 3%; Isolation Resistance: 0.5GOhm; Technical Reference: X7R1206105K050DFCT10000; Capacitance: 1uF; Ceramic Type: X7R; ComponentLink1Description: Manufacturer Link; ComponentLink1URL: http://www.we-online.de; ComponentLink2Description: Datasheet; ComponentLink2URL: https://www.we-online.com/catalog/datasheet/885012208093.pdf; Height: 1.6mm; Length: 3.2mm; Mounting Technology: SMT; Operating Temperature max.: 125C; Operating Temperature min.: -55C; Packaging: Tape and Reel; Rated Voltage: 50V; Size: 1206; Width: 1.6mm
footprint WCAP-CSGP_1206_L3.2W1.6H1.6
pins: 1, 2

## 885012208094
designator C?, comment 4.7uF, 50V
WCAP-CSGP Multilayer Ceramic Chip Capacitor, General Purpose, size 1206, X7R, 4.7uF, 50V; Manufacturer: Wurth Elektronik; Manufacturer Part Number: 885012208094; Capacitance Tolerance: +/-10%; Dissipation Factor: 10%; Isolation Resistance: 0.02GOhm; Technical Reference: X7R1206475K050DFCT10000; Capacitance: 4.7uF; Ceramic Type: X7R; ComponentLink1Description: Manufacturer Link; ComponentLink1URL: http://www.we-online.de; ComponentLink2Description: Datasheet; ComponentLink2URL: https://www.we-online.com/catalog/datasheet/885012208094.pdf; Height: 1.6mm; Length: 3.2mm; Mounting Technology: SMT; Operating Temperature max.: 125C; Operating Temperature min.: -55C; Packaging: Tape and Reel; Rated Voltage: 50V; Size: 1206; Width: 1.6mm
footprint WCAP-CSGP_1206_L3.2W1.6H1.6
pins: 1, 2

## 885012208101
designator C?, comment 150pF, 100V
WCAP-CSGP Multilayer Ceramic Chip Capacitor, General Purpose, size 1206, X7R, 150pF, 100V; Manufacturer: Wurth Elektronik; Manufacturer Part Number: 885012208101; Capacitance Tolerance: +/-10%; Dissipation Factor: 2.5%; Isolation Resistance: 10GOhm; Technical Reference: X7R1206151K100DFCT10000; Capacitance: 150pF; Ceramic Type: X7R; ComponentLink1Description: Manufacturer Link; ComponentLink1URL: http://www.we-online.de; ComponentLink2Description: Datasheet; ComponentLink2URL: https://www.we-online.com/catalog/datasheet/885012208101.pdf; Height: 0.8mm; Length: 3.2mm; Mounting Technology: SMT; Operating Temperature max.: 125C; Operating Temperature min.: -55C; Packaging: Tape and Reel; Rated Voltage: 100V; Size: 1206; Width: 1.6mm
footprint WCAP-CSGP_1206_L3.2W1.6H0.8
pins: 1, 2

## 885012208103
designator C?, comment 330pF, 100V
WCAP-CSGP Multilayer Ceramic Chip Capacitor, General Purpose, size 1206, X7R, 330pF, 100V; Manufacturer: Wurth Elektronik; Manufacturer Part Number: 885012208103; Capacitance Tolerance: +/-10%; Dissipation Factor: 2.5%; Isolation Resistance: 10GOhm; Technical Reference: X7R1206331K100DFCT10000; Capacitance: 330pF; Ceramic Type: X7R; ComponentLink1Description: Manufacturer Link; ComponentLink1URL: http://www.we-online.de; ComponentLink2Description: Datasheet; ComponentLink2URL: https://www.we-online.com/catalog/datasheet/885012208103.pdf; Height: 0.8mm; Length: 3.2mm; Mounting Technology: SMT; Operating Temperature max.: 125C; Operating Temperature min.: -55C; Packaging: Tape and Reel; Rated Voltage: 100V; Size: 1206; Width: 1.6mm
footprint WCAP-CSGP_1206_L3.2W1.6H0.8
pins: 1, 2

## 885012208104
designator C?, comment 470pF, 100V
WCAP-CSGP Multilayer Ceramic Chip Capacitor, General Purpose, size 1206, X7R, 470pF, 100V; Manufacturer: Wurth Elektronik; Manufacturer Part Number: 885012208104; Capacitance Tolerance: +/-10%; Dissipation Factor: 2.5%; Isolation Resistance: 10GOhm; Technical Reference: X7R1206471K100DFCT10000; Capacitance: 470pF; Ceramic Type: X7R; ComponentLink1Description: Manufacturer Link; ComponentLink1URL: http://www.we-online.de; ComponentLink2Description: Datasheet; ComponentLink2URL: https://www.we-online.com/catalog/datasheet/885012208104.pdf; Height: 0.8mm; Length: 3.2mm; Mounting Technology: SMT; Operating Temperature max.: 125C; Operating Temperature min.: -55C; Packaging: Tape and Reel; Rated Voltage: 100V; Size: 1206; Width: 1.6mm
footprint WCAP-CSGP_1206_L3.2W1.6H0.8
pins: 1, 2

## 885012208105
designator C?, comment 680pF, 100V
WCAP-CSGP Multilayer Ceramic Chip Capacitor, General Purpose, size 1206, X7R, 680pF, 100V; Manufacturer: Wurth Elektronik; Manufacturer Part Number: 885012208105; Capacitance Tolerance: +/-10%; Dissipation Factor: 2.5%; Isolation Resistance: 10GOhm; Technical Reference: X7R1206681K100DFCT10000; Capacitance: 680pF; Ceramic Type: X7R; ComponentLink1Description: Manufacturer Link; ComponentLink1URL: http://www.we-online.de; ComponentLink2Description: Datasheet; ComponentLink2URL: https://www.we-online.com/catalog/datasheet/885012208105.pdf; Height: 0.8mm; Length: 3.2mm; Mounting Technology: SMT; Operating Temperature max.: 125C; Operating Temperature min.: -55C; Packaging: Tape and Reel; Rated Voltage: 100V; Size: 1206; Width: 1.6mm
footprint WCAP-CSGP_1206_L3.2W1.6H0.8
pins: 1, 2

## 885012208106
designator C?, comment 1nF, 100V
WCAP-CSGP Multilayer Ceramic Chip Capacitor, General Purpose, size 1206, X7R, 1nF, 100V; Manufacturer: Wurth Elektronik; Manufacturer Part Number: 885012208106; Capacitance Tolerance: +/-10%; Dissipation Factor: 2.5%; Isolation Resistance: 10GOhm; Technical Reference: X7R1206102K100DFCT10000; Capacitance: 1nF; Ceramic Type: X7R; ComponentLink1Description: Manufacturer Link; ComponentLink1URL: http://www.we-online.de; ComponentLink2Description: Datasheet; ComponentLink2URL: https://www.we-online.com/catalog/datasheet/885012208106.pdf; Height: 0.8mm; Length: 3.2mm; Mounting Technology: SMT; Operating Temperature max.: 125C; Operating Temperature min.: -55C; Packaging: Tape and Reel; Rated Voltage: 100V; Size: 1206; Width: 1.6mm
footprint WCAP-CSGP_1206_L3.2W1.6H0.8
pins: 1, 2

## 885012208107
designator C?, comment 1.5nF, 100V
WCAP-CSGP Multilayer Ceramic Chip Capacitor, General Purpose, size 1206, X7R, 1.5nF, 100V; Manufacturer: Wurth Elektronik; Manufacturer Part Number: 885012208107; Capacitance Tolerance: +/-10%; Dissipation Factor: 2.5%; Isolation Resistance: 10GOhm; Technical Reference: X7R1206152K100DFCT10000; Capacitance: 1.5nF; Ceramic Type: X7R; ComponentLink1Description: Manufacturer Link; ComponentLink1URL: http://www.we-online.de; ComponentLink2Description: Datasheet; ComponentLink2URL: https://www.we-online.com/catalog/datasheet/885012208107.pdf; Height: 0.8mm; Length: 3.2mm; Mounting Technology: SMT; Operating Temperature max.: 125C; Operating Temperature min.: -55C; Packaging: Tape and Reel; Rated Voltage: 100V; Size: 1206; Width: 1.6mm
footprint WCAP-CSGP_1206_L3.2W1.6H0.8
pins: 1, 2

## 885012208109
designator C?, comment 3.3nF, 100V
WCAP-CSGP Multilayer Ceramic Chip Capacitor, General Purpose, size 1206, X7R, 3.3nF, 100V; Manufacturer: Wurth Elektronik; Manufacturer Part Number: 885012208109; Capacitance Tolerance: +/-10%; Dissipation Factor: 2.5%; Isolation Resistance: 10GOhm; Technical Reference: X7R1206332K100DFCT10000; Capacitance: 3.3nF; Ceramic Type: X7R; ComponentLink1Description: Manufacturer Link; ComponentLink1URL: http://www.we-online.de; ComponentLink2Description: Datasheet; ComponentLink2URL: https://www.we-online.com/catalog/datasheet/885012208109.pdf; Height: 0.8mm; Length: 3.2mm; Mounting Technology: SMT; Operating Temperature max.: 125C; Operating Temperature min.: -55C; Packaging: Tape and Reel; Rated Voltage: 100V; Size: 1206; Width: 1.6mm
footprint WCAP-CSGP_1206_L3.2W1.6H0.8
pins: 1, 2

## 885012208110
designator C?, comment 4.7nF, 100V
WCAP-CSGP Multilayer Ceramic Chip Capacitor, General Purpose, size 1206, X7R, 4.7nF, 100V; Manufacturer: Wurth Elektronik; Manufacturer Part Number: 885012208110; Capacitance Tolerance: +/-10%; Dissipation Factor: 2.5%; Isolation Resistance: 10GOhm; Technical Reference: X7R1206472K100DFCT10000; Capacitance: 4.7nF; Ceramic Type: X7R; ComponentLink1Description: Manufacturer Link; ComponentLink1URL: http://www.we-online.de; ComponentLink2Description: Datasheet; ComponentLink2URL: https://www.we-online.com/catalog/datasheet/885012208110.pdf; Height: 0.8mm; Length: 3.2mm; Mounting Technology: SMT; Operating Temperature max.: 125C; Operating Temperature min.: -55C; Packaging: Tape and Reel; Rated Voltage: 100V; Size: 1206; Width: 1.6mm
footprint WCAP-CSGP_1206_L3.2W1.6H0.8
pins: 1, 2

## 885012208111
designator C?, comment 6.8nF, 100V
WCAP-CSGP Multilayer Ceramic Chip Capacitor, General Purpose, size 1206, X7R, 6.8nF, 100V; Manufacturer: Wurth Elektronik; Manufacturer Part Number: 885012208111; Capacitance Tolerance: +/-10%; Dissipation Factor: 2.5%; Isolation Resistance: 10GOhm; Technical Reference: X7R1206682K100DFCT10000; Capacitance: 6.8nF; Ceramic Type: X7R; ComponentLink1Description: Manufacturer Link; ComponentLink1URL: http://www.we-online.de; ComponentLink2Description: Datasheet; ComponentLink2URL: https://www.we-online.com/catalog/datasheet/885012208111.pdf; Height: 0.8mm; Length: 3.2mm; Mounting Technology: SMT; Operating Temperature max.: 125C; Operating Temperature min.: -55C; Packaging: Tape and Reel; Rated Voltage: 100V; Size: 1206; Width: 1.6mm
footprint WCAP-CSGP_1206_L3.2W1.6H0.8
pins: 1, 2

## 885012208112
designator C?, comment 10nF, 100V
WCAP-CSGP Multilayer Ceramic Chip Capacitor, General Purpose, size 1206, X7R, 10nF, 100V; Manufacturer: Wurth Elektronik; Manufacturer Part Number: 885012208112; Capacitance Tolerance: +/-10%; Dissipation Factor: 2.5%; Isolation Resistance: 10GOhm; Technical Reference: X7R1206103K100DFCT10000; Capacitance: 10nF; Ceramic Type: X7R; ComponentLink1Description: Manufacturer Link; ComponentLink1URL: http://www.we-online.de; ComponentLink2Description: Datasheet; ComponentLink2URL: https://www.we-online.com/catalog/datasheet/885012208112.pdf; Height: 0.8mm; Length: 3.2mm; Mounting Technology: SMT; Operating Temperature max.: 125C; Operating Temperature min.: -55C; Packaging: Tape and Reel; Rated Voltage: 100V; Size: 1206; Width: 1.6mm
footprint WCAP-CSGP_1206_L3.2W1.6H0.8
pins: 1, 2

## 885012208113
designator C?, comment 15nF, 100V
WCAP-CSGP Multilayer Ceramic Chip Capacitor, General Purpose, size 1206, X7R, 15nF, 100V; Manufacturer: Wurth Elektronik; Manufacturer Part Number: 885012208113; Capacitance Tolerance: +/-10%; Dissipation Factor: 2.5%; Isolation Resistance: 6.7GOhm; Technical Reference: X7R1206153K100DFCT10000; Capacitance: 15nF; Ceramic Type: X7R; ComponentLink1Description: Manufacturer Link; ComponentLink1URL: http://www.we-online.de; ComponentLink2Description: Datasheet; ComponentLink2URL: https://www.we-online.com/catalog/datasheet/885012208113.pdf; Height: 0.8mm; Length: 3.2mm; Mounting Technology: SMT; Operating Temperature max.: 125C; Operating Temperature min.: -55C; Packaging: Tape and Reel; Rated Voltage: 100V; Size: 1206; Width: 1.6mm
footprint WCAP-CSGP_1206_L3.2W1.6H0.8
pins: 1, 2

## 885012208115
designator C?, comment 33nF, 100V
WCAP-CSGP Multilayer Ceramic Chip Capacitor, General Purpose, size 1206, X7R, 33nF, 100V; Manufacturer: Wurth Elektronik; Manufacturer Part Number: 885012208115; Capacitance Tolerance: +/-10%; Dissipation Factor: 2.5%; Isolation Resistance: 3GOhm; Technical Reference: X7R1206333K100DFCT10000; Capacitance: 33nF; Ceramic Type: X7R; ComponentLink1Description: Manufacturer Link; ComponentLink1URL: http://www.we-online.de; ComponentLink2Description: Datasheet; ComponentLink2URL: https://www.we-online.com/catalog/datasheet/885012208115.pdf; Height: 0.8mm; Length: 3.2mm; Mounting Technology: SMT; Operating Temperature max.: 125C; Operating Temperature min.: -55C; Packaging: Tape and Reel; Rated Voltage: 100V; Size: 1206; Width: 1.6mm
footprint WCAP-CSGP_1206_L3.2W1.6H0.8
pins: 1, 2

## 885012208116
designator C?, comment 47nF, 100V
WCAP-CSGP Multilayer Ceramic Chip Capacitor, General Purpose, size 1206, X7R, 47nF, 100V; Manufacturer: Wurth Elektronik; Manufacturer Part Number: 885012208116; Capacitance Tolerance: +/-10%; Dissipation Factor: 2.5%; Isolation Resistance: 2.1GOhm; Technical Reference: X7R1206473K100DFCT10000; Capacitance: 47nF; Ceramic Type: X7R; ComponentLink1Description: Manufacturer Link; ComponentLink1URL: http://www.we-online.de; ComponentLink2Description: Datasheet; ComponentLink2URL: https://www.we-online.com/catalog/datasheet/885012208116.pdf; Height: 0.8mm; Length: 3.2mm; Mounting Technology: SMT; Operating Temperature max.: 125C; Operating Temperature min.: -55C; Packaging: Tape and Reel; Rated Voltage: 100V; Size: 1206; Width: 1.6mm
footprint WCAP-CSGP_1206_L3.2W1.6H0.8
pins: 1, 2

## 885012208117
designator C?, comment 68nF, 100V
WCAP-CSGP Multilayer Ceramic Chip Capacitor, General Purpose, size 1206, X7R, 68nF, 100V; Manufacturer: Wurth Elektronik; Manufacturer Part Number: 885012208117; Capacitance Tolerance: +/-10%; Dissipation Factor: 2.5%; Isolation Resistance: 1.5GOhm; Technical Reference: X7R1206683K100DFCT10000; Capacitance: 68nF; Ceramic Type: X7R; ComponentLink1Description: Manufacturer Link; ComponentLink1URL: http://www.we-online.de; ComponentLink2Description: Datasheet; ComponentLink2URL: https://www.we-online.com/catalog/datasheet/885012208117.pdf; Height: 0.8mm; Length: 3.2mm; Mounting Technology: SMT; Operating Temperature max.: 125C; Operating Temperature min.: -55C; Packaging: Tape and Reel; Rated Voltage: 100V; Size: 1206; Width: 1.6mm
footprint WCAP-CSGP_1206_L3.2W1.6H0.8
pins: 1, 2

## 885012208118
designator C?, comment 100nF, 100V
WCAP-CSGP Multilayer Ceramic Chip Capacitor, General Purpose, size 1206, X7R, 100nF, 100V; Manufacturer: Wurth Elektronik; Manufacturer Part Number: 885012208118; Capacitance Tolerance: +/-10%; Dissipation Factor: 2.5%; Isolation Resistance: 1GOhm; Technical Reference: X7R1206104K100DFCT10000; Capacitance: 100nF; Ceramic Type: X7R; ComponentLink1Description: Manufacturer Link; ComponentLink1URL: http://www.we-online.de; ComponentLink2Description: Datasheet; ComponentLink2URL: https://www.we-online.com/catalog/datasheet/885012208118.pdf; Height: 1.25mm; Length: 3.2mm; Mounting Technology: SMT; Operating Temperature max.: 125C; Operating Temperature min.: -55C; Packaging: Tape and Reel; Rated Voltage: 100V; Size: 1206; Width: 1.6mm
footprint WCAP-CSGP_1206_L3.2W1.6H1.25
pins: 1, 2